# Altium footprint library 662010230822.PcbLib: 1 footprints
Each footprint in its own frame and in the unit in brackets; x right, y up, seen from the top. Pads: shape width x height; smd on the part's side, far side on the other; paste and mask are expansions set on the pad; w line width, h text height; cw(c..) or ccw(c..) is an arc to the next point about the centre after c.
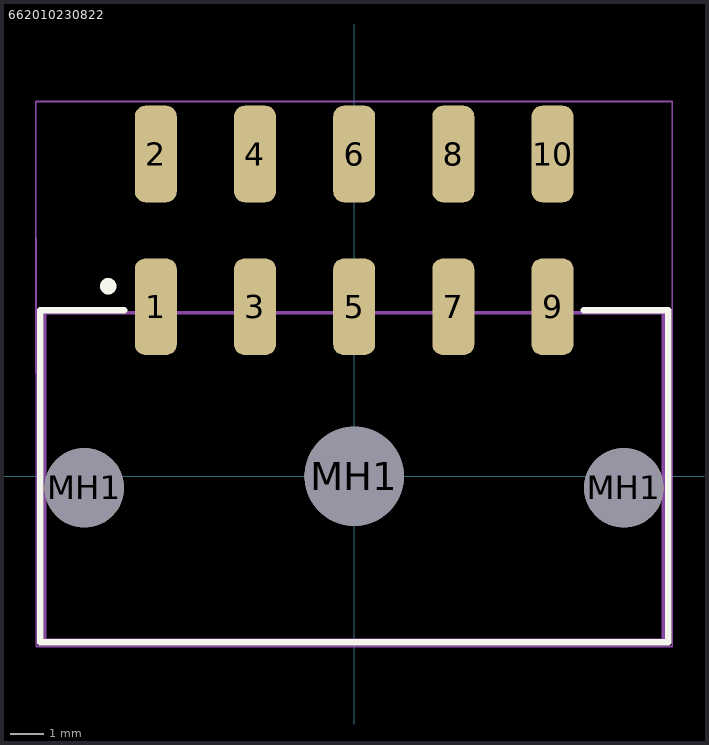
[diagram p0: the footprint, top view; thin cyan lines are the x and y axes]

## 662010230822 [mm] "Dual row SMT Right angle header With TH Metal Clip 10p"
height 8.76
pads (13):
  rrect50% 1.27x2.92 smd: 1(-6,5.13) 2(-6,9.75) 3(-3,5.13) 4(-3,9.75) 5(0,5.13) 6(0,9.75) 7(3,5.13) 8(3,9.75) 9(6,5.13) 10(6,9.75)
  round 2.4 hole 2.4 unplated mask+0: MH1(-8.16,-0.35) MH1(8.16,-0.35)
  round 3 hole 3 unplated mask+0: MH1(0,0)
Top Overlay:
  circle w0.25: c-7.44,5.75 r0.125
  lines w0.2: -9.5,5.02 -9.5,-5.025 9.5,-5.025 ; -9.5,5.025 -6.95,5.025 ; 6.95,5.025 9.5,5.025 9.5,-5.02
Top Assembly:
  lines w0.1: -9.35,-4.95 -9.35,4.95 9.35,4.95 9.35,-4.95 -9.35,-4.95
Top Courtyard:
  lines w0.05: -9.61,-5.15 9.62,-5.15 9.62,11.34 -9.63,11.34 -9.61,-5.14
3D body "662010230822.stp": height 8.78, standoff -3.08, extent -9.35,-4.95 9.35,10.95